# EAGLE library part BLUETOOTHMODULE (library 1dah)
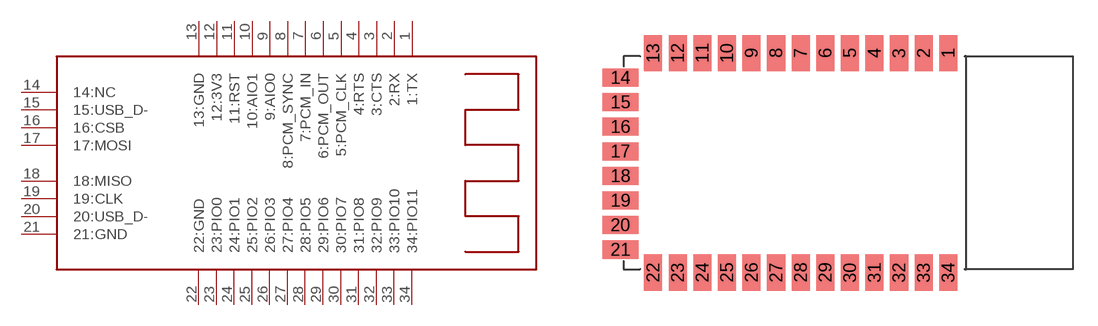
[diagram p47: symbol with the pads of BLUETOOTHMODULE; footprint BLUETOOTHMODULE]

Designator prefix -

## BLUETOOTHMODULE  [BLUETOOTHMODULE]
1  1:TX
2  2:RX
3  3:CTS
4  4:RTS
5  5:PCM_CLK
6  6:PCM_OUT
7  7:PCM_IN
8  8:PCM_SYNC
9  9:AIO0
10  10:AIO1
11  11:RST
12  12:3V3
13  13:GND
14  14:NC
15  15:USB_D-
16  16:CSB
17  17:MOSI
18  18:MISO
19  19:CLK
20  20:USB_D-
21  21:GND
22  22:GND
23  23:PIO0
24  24:PIO1
25  25:PIO2
26  26:PIO3
27  27:PIO4
28  28:PIO5
29  29:PIO6
30  30:PIO7
31  31:PIO8
32  32:PIO9
33  33:PIO10
34  34:PIO11

## Footprint BLUETOOTHMODULE (pad centres in mm)
smd 1.1 x 2.2: 1 6.1,6.7; 2 4.6,6.7; 3 3.1,6.7; 4 1.6,6.7; 5 0.1,6.7; 6 -1.4,6.7; 7 -2.9,6.7; 8 -4.4,6.7; 9 -5.9,6.7; 10 -7.4,6.7; 11 -8.9,6.7; 12 -10.4,6.7; 13 -11.9,6.7; 22 -11.9,-6.7; 23 -10.4,-6.7; 24 -8.9,-6.7; 25 -7.4,-6.7; 26 -5.9,-6.7; 27 -4.4,-6.7; 28 -2.9,-6.7; 29 -1.4,-6.7; 30 0.1,-6.7; 31 1.6,-6.7; 32 3.1,-6.7; 33 4.6,-6.7; 34 6.1,-6.7
smd 2.2 x 1.1: 14 -13.9,5.2; 15 -13.9,3.7; 16 -13.9,2.2; 17 -13.9,0.7; 18 -13.9,-0.8; 19 -13.9,-2.3; 20 -13.9,-3.8; 21 -13.9,-5.3